# Altium integrated library Linear Technology PMIC-Switching Reg LTC1174-LTC3901.IntLib: 2647 symbols (part 82 of 310)
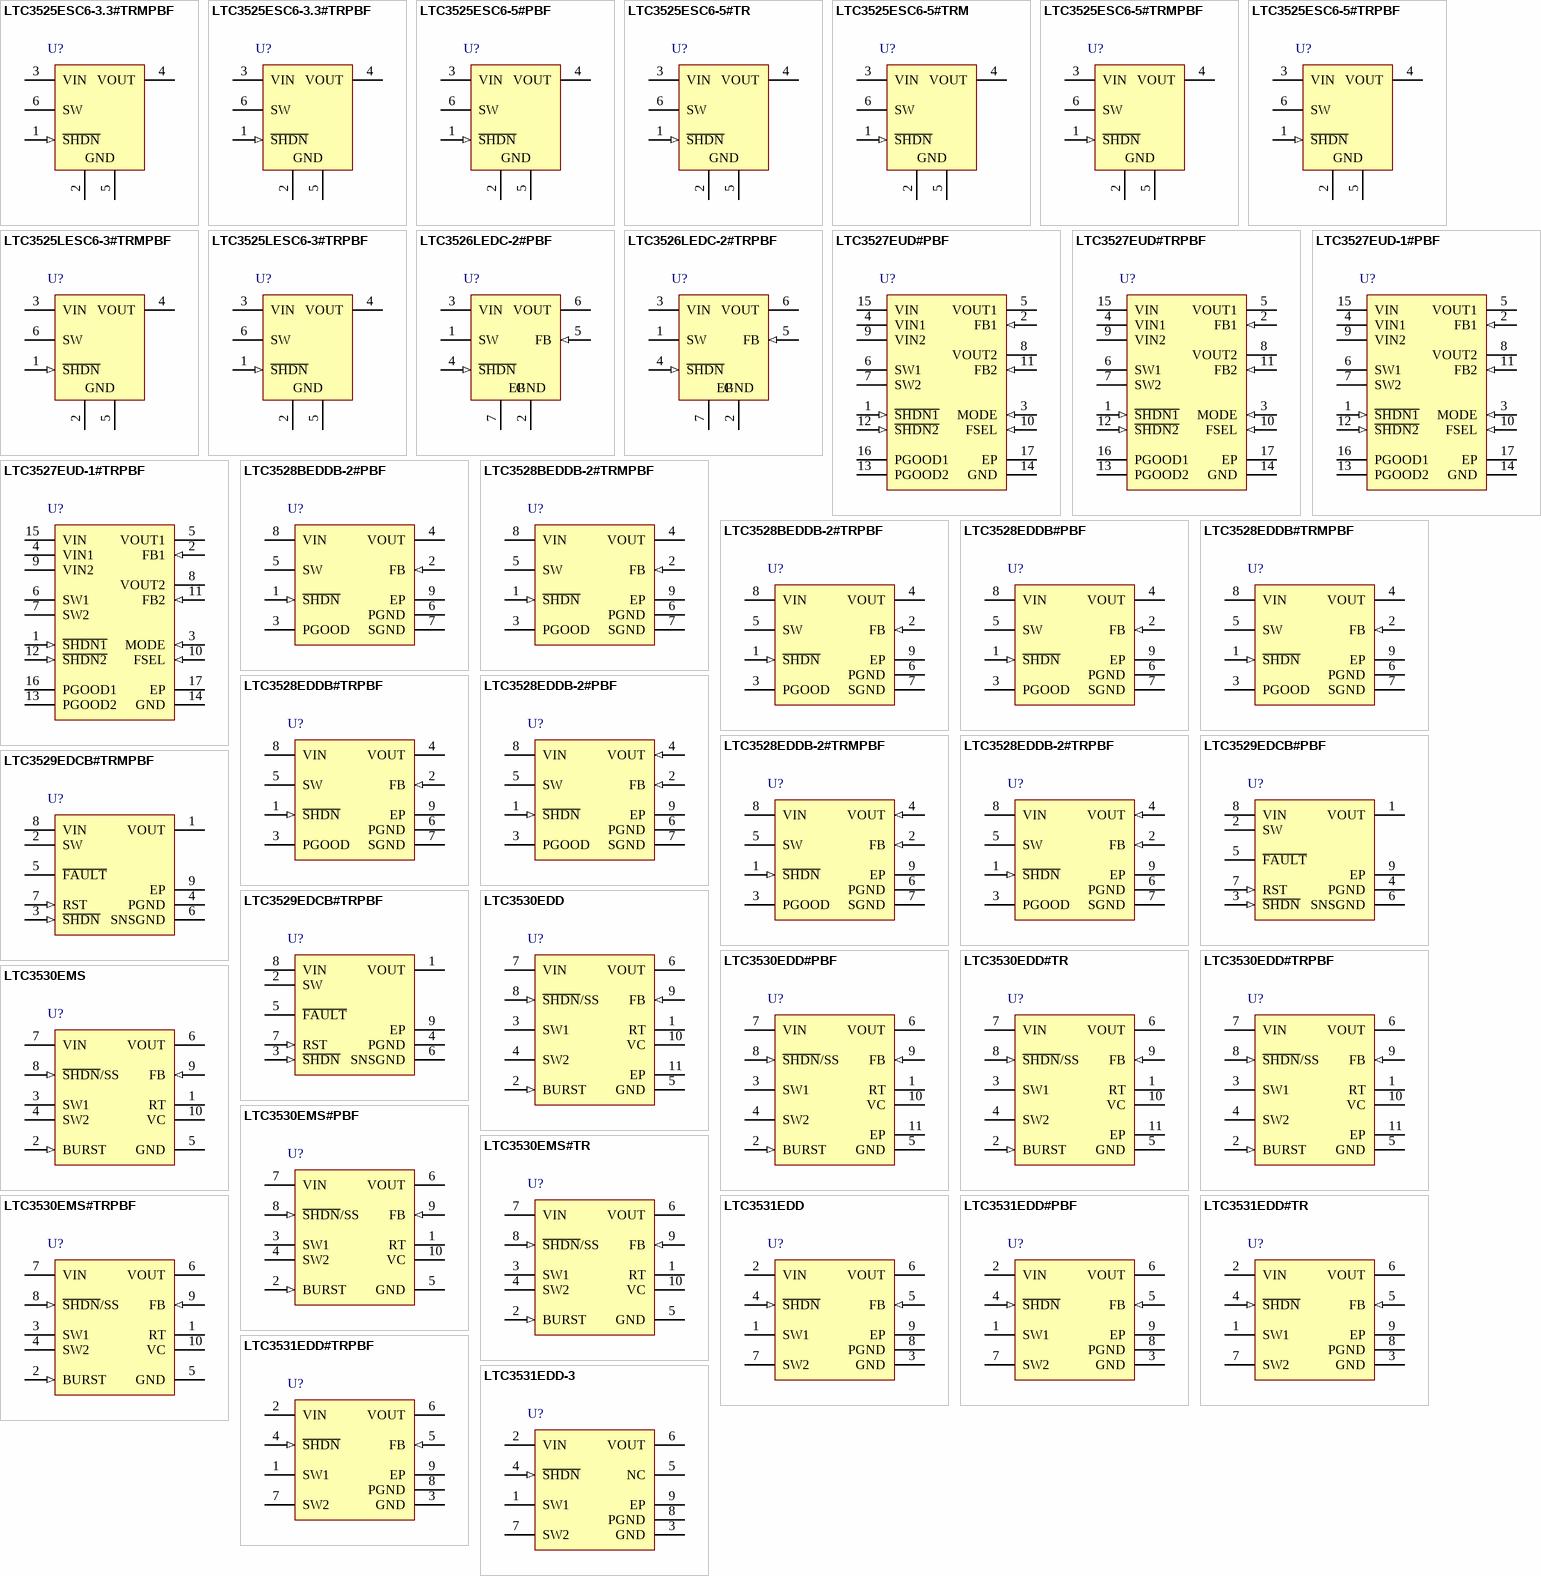
[diagram p162: symbols LTC3525ESC6-3.3#TRMPBF to LTC3531EDD-3]

## LTC3526LEDC-2#PBF
designator U?
550 mA 2 MHz Synchronous Step-Up DC/DC Converter, 6-pin SON (DC6-6), -40 to 85 degC, Pb-Free; Manufacturer: Linear Technology; PartNumber: LTC3526LEDC-2#PBF; Number of Outputs: 1; PackageReference: DC6-6; PackageDescription: 6-Pin Plastic DFN, Body 2 x 2 mm, Pitch 0.5 mm; RoHS: TRUE; Code_JEDEC: MO-229
footprint LT-DC6-6_V (SON, 6-Leads, Body 2x2mm, Pitch 0.5mm, Thermal Pad 1.42x0.61mm)
pins: 1 SW "Switch Pin. Connect inductor between SW and VIN. Keep PCB trace lengths as short and wide as possible to reduce EMI. If the inductor current falls to zero or S\H\D\N\ is low, an internal anti-ringing switch is connected from (See Datasheet)", 2 GND (power) "Signal and Power Ground. Provide a short direct PCB path between GND and the (-) side of the input and output capacitors. The Exposed Pad must be soldered to the PCB ground plane. It serves as an additional ground connection (See Datasheet)", 3 VIN (power) "Input Supply Pin. Connect a minimum of 1uF ceramic decoupling capacitor from this pin to ground using short direct PCB traces.", 4 ~{SHDN} (in) "Logic Controlled Shutdown Input. There is an internal 4Mohm pull-down on this pin.", 5 FB (in) "Feedback Input to the gm Error Amplifier. Connect resistor divider tap to this pin. The top of the divider connects to the output capacitor, the bottom of the divider connects to GND. Referring to the Block Diagram, the (See Datasheet)", 6 VOUT (power) "Output voltage sense and drain of the internal synchronous rectifier. PCB trace from VOUT to the output filter capacitor (4.7uF minimum) should be as short and", 7 EP (power) "Signal and Power Ground. Provide a short direct PCB path between GND and the (-) side of the input and output capacitors. The Exposed Pad must be soldered to the PCB ground plane. It serves as an additional ground connection (See Datasheet)"

## LTC3526LEDC-2#TRPBF
designator U?
550 mA 2 MHz Synchronous Step-Up DC/DC Converter, 6-pin SON (DC6-6), -40 to 85 degC, Pb-Free, Tape and Reel; Manufacturer: Linear Technology; PartNumber: LTC3526LEDC-2#TRPBF; Number of Outputs: 1; PackageReference: DC6-6; PackageDescription: 6-Pin Plastic DFN, Body 2 x 2 mm, Pitch 0.5 mm; RoHS: TRUE; Code_JEDEC: MO-229
footprint LT-DC6-6_V (SON, 6-Leads, Body 2x2mm, Pitch 0.5mm, Thermal Pad 1.42x0.61mm)
pins: 1 SW "Switch Pin. Connect inductor between SW and VIN. Keep PCB trace lengths as short and wide as possible to reduce EMI. If the inductor current falls to zero or S\H\D\N\ is low, an internal anti-ringing switch is connected from (See Datasheet)", 2 GND (power) "Signal and Power Ground. Provide a short direct PCB path between GND and the (-) side of the input and output capacitors. The Exposed Pad must be soldered to the PCB ground plane. It serves as an additional ground connection (See Datasheet)", 3 VIN (power) "Input Supply Pin. Connect a minimum of 1uF ceramic decoupling capacitor from this pin to ground using short direct PCB traces.", 4 ~{SHDN} (in) "Logic Controlled Shutdown Input. There is an internal 4Mohm pull-down on this pin.", 5 FB (in) "Feedback Input to the gm Error Amplifier. Connect resistor divider tap to this pin. The top of the divider connects to the output capacitor, the bottom of the divider connects to GND. Referring to the Block Diagram, the (See Datasheet)", 6 VOUT (power) "Output voltage sense and drain of the internal synchronous rectifier. PCB trace from VOUT to the output filter capacitor (4.7uF minimum) should be as short and", 7 EP (power) "Signal and Power Ground. Provide a short direct PCB path between GND and the (-) side of the input and output capacitors. The Exposed Pad must be soldered to the PCB ground plane. It serves as an additional ground connection (See Datasheet)"

## LTC3527EUD#PBF
designator U?
Dual 800 mA / 400 mA, 1.2 MHz / 2.2 MHz Synchronous Step-Up DC/DC Converter, 16-pin QFN (UD-16), -40 to 85 degC, Pb-Free; Manufacturer: Linear Technology; PartNumber: LTC3527EUD#PBF; Number of Outputs: 2; PackageReference: UD-16; PackageDescription: 16-Pin Plastic QFN, Body 3 x 3 mm, Pitch 0.5 mm; Supplier 1: Digi-Key; Supplier Part Number 1: LTC3527EUD#PBF-ND; RoHS: TRUE; Code_JEDEC: MO-220
footprint LT-UD-16_N (QFN, 16-Leads, Body 3x3mm, Pitch 0.5mm, Thermal Pad 1.45x1.45mm, IPC Medium Density)
footprint LT-UD-16_L (QFN, 16-Leads, Body 3x3mm, Pitch 0.5mm, Thermal Pad 1.45x1.45mm, IPC High Density)
footprint LT-UD-16_M (QFN, 16-Leads, Body 3x3mm, Pitch 0.5mm, Thermal Pad 1.45x1.45mm, IPC Low Density)
pins: 1 ~{SHDN1} (in) "Boost Converter 1 Logic-Controlled Shutdown Input. There is an internal 4Mohm pull-down on this pin.  S\H\D\N\1\ = High: Normal free running operation, 1.2MHz/ 2.2MHz typical operating frequency.  S\H\D\N\1\ = Low: Shutdown, (See Datasheet)", 2 FB1 (in) "Boost Converter 1 Feedback Input to the gm Error Amplifier. Connect resistor divider tap to this pin.", 3 MODE (in) "Logic-Controlled Mode Input for Both Boost Converters. MODE = High: Fixed frequency operation. MODE = Low: Automatic Burst Mode operation.MODE pin must be 1V or greater to ensure fixed frequency over all operating conditions.", 4 VIN1 (power) "Battery Input Voltage. See Operation section for more information.", 5 VOUT1 (power) "Boost Converter 1 Output Voltage Sense Input and Drain of the Internal Synchronous Rectifier MOSFET. Driver bias is derived from VOUT1. PCB trace length from VOUT1 to the output filter capacitor(s) should be as short and (See Datasheet)", 6 SW1 "Boost Converter 1 Switch Pin. Connect the inductor between SW1 and VIN1. Keep these PCB trace lengths as short and wide as possible to reduce EMI and voltage overshoot. If the inductor current falls to zero or S\H\D\N\1\ is (See Datasheet)", 7 SW2 "Boost Converter 2 Switch Pin. Connect the inductor between SW2 and VIN2. Keep these PCB trace lengths as short and wide as possible to reduce EMI and voltage overshoot. If the inductor current falls to zero or S\H\D\N\2\ is (See Datasheet)", 8 VOUT2 (power) "Boost Converter 2 Output Voltage Sense Input and Drain of the Internal Synchronous Rectifier MOSFET. Driver bias is derived from VOUT2. PCB trace length from VOUT2 to the output filter capacitor(s) should be as short and (See Datasheet)", 9 VIN2 (power) "Battery Input Voltage. See Operation section for more information.", 10 FSEL (in) "Logic-Controlled Frequency Select Input. FSEL = High: 2.2MHz operation. FSEL = Low: 1.2MHz operation", 11 FB2 (in) "Boost Converter 2 Feedback Input to the gm Error Amplifier. Connect resistor divider tap to this pin.", 12 ~{SHDN2} (in) "Boost Converter 2 Logic-Controlled Shutdown Input. There is an internal 4Mohm pull-down on this pin. S\H\D\N\2\ = High: Normal free-running operation, 1.2MHz/2.2MHz typical operating frequency. S\H\D\N\2\ = Low: Shutdown, (See Datasheet)", 13 PGOOD2 (oc) "Boost Converter 2 Power Good Comparator Output. This open-drain output is low when VFB is 9% below its regulation voltage.", 14 GND (power) "Signal Ground. This pin is used as a ground reference for the internal circuitry of the LTC3527/LTC3527-1.", 15 VIN (power) "Battery Input Voltage. See Operation section for more information.", 16 PGOOD1 (oc) "Boost Converter 1 Power Good Comparator Output. This open-drain output is low when VFB is 9% below its regulation voltage.", 17 EP (power) "Backplane. The exposed pad is PGND and must be soldered to the PCB ground plane. It serves as the power ground connection for VOUT1 and VOUT2, and as a means of conducting heat away from the package."

## LTC3527EUD#TRPBF
designator U?
Dual 800 mA / 400 mA, 1.2 MHz / 2.2 MHz Synchronous Step-Up DC/DC Converter, 16-pin QFN (UD-16), -40 to 85 degC, Pb-Free, Tape and Reel; Manufacturer: Linear Technology; PartNumber: LTC3527EUD#TRPBF; Number of Outputs: 2; PackageReference: UD-16; PackageDescription: 16-Pin Plastic QFN, Body 3 x 3 mm, Pitch 0.5 mm; Supplier 1: Digi-Key; Supplier Part Number 1: LTC3527EUD#TRPBF-ND; RoHS: TRUE; Code_JEDEC: MO-220
footprint LT-UD-16_N (QFN, 16-Leads, Body 3x3mm, Pitch 0.5mm, Thermal Pad 1.45x1.45mm, IPC Medium Density)
footprint LT-UD-16_L (QFN, 16-Leads, Body 3x3mm, Pitch 0.5mm, Thermal Pad 1.45x1.45mm, IPC High Density)
footprint LT-UD-16_M (QFN, 16-Leads, Body 3x3mm, Pitch 0.5mm, Thermal Pad 1.45x1.45mm, IPC Low Density)
pins: 1 ~{SHDN1} (in) "Boost Converter 1 Logic-Controlled Shutdown Input. There is an internal 4Mohm pull-down on this pin.  S\H\D\N\1\ = High: Normal free running operation, 1.2MHz/ 2.2MHz typical operating frequency.  S\H\D\N\1\ = Low: Shutdown, (See Datasheet)", 2 FB1 (in) "Boost Converter 1 Feedback Input to the gm Error Amplifier. Connect resistor divider tap to this pin.", 3 MODE (in) "Logic-Controlled Mode Input for Both Boost Converters. MODE = High: Fixed frequency operation. MODE = Low: Automatic Burst Mode operation.MODE pin must be 1V or greater to ensure fixed frequency over all operating conditions.", 4 VIN1 (power) "Battery Input Voltage. See Operation section for more information.", 5 VOUT1 (power) "Boost Converter 1 Output Voltage Sense Input and Drain of the Internal Synchronous Rectifier MOSFET. Driver bias is derived from VOUT1. PCB trace length from VOUT1 to the output filter capacitor(s) should be as short and (See Datasheet)", 6 SW1 "Boost Converter 1 Switch Pin. Connect the inductor between SW1 and VIN1. Keep these PCB trace lengths as short and wide as possible to reduce EMI and voltage overshoot. If the inductor current falls to zero or S\H\D\N\1\ is (See Datasheet)", 7 SW2 "Boost Converter 2 Switch Pin. Connect the inductor between SW2 and VIN2. Keep these PCB trace lengths as short and wide as possible to reduce EMI and voltage overshoot. If the inductor current falls to zero or S\H\D\N\2\ is (See Datasheet)", 8 VOUT2 (power) "Boost Converter 2 Output Voltage Sense Input and Drain of the Internal Synchronous Rectifier MOSFET. Driver bias is derived from VOUT2. PCB trace length from VOUT2 to the output filter capacitor(s) should be as short and (See Datasheet)", 9 VIN2 (power) "Battery Input Voltage. See Operation section for more information.", 10 FSEL (in) "Logic-Controlled Frequency Select Input. FSEL = High: 2.2MHz operation. FSEL = Low: 1.2MHz operation", 11 FB2 (in) "Boost Converter 2 Feedback Input to the gm Error Amplifier. Connect resistor divider tap to this pin.", 12 ~{SHDN2} (in) "Boost Converter 2 Logic-Controlled Shutdown Input. There is an internal 4Mohm pull-down on this pin. S\H\D\N\2\ = High: Normal free-running operation, 1.2MHz/2.2MHz typical operating frequency. S\H\D\N\2\ = Low: Shutdown, (See Datasheet)", 13 PGOOD2 (oc) "Boost Converter 2 Power Good Comparator Output. This open-drain output is low when VFB is 9% below its regulation voltage.", 14 GND (power) "Signal Ground. This pin is used as a ground reference for the internal circuitry of the LTC3527/LTC3527-1.", 15 VIN (power) "Battery Input Voltage. See Operation section for more information.", 16 PGOOD1 (oc) "Boost Converter 1 Power Good Comparator Output. This open-drain output is low when VFB is 9% below its regulation voltage.", 17 EP (power) "Backplane. The exposed pad is PGND and must be soldered to the PCB ground plane. It serves as the power ground connection for VOUT1 and VOUT2, and as a means of conducting heat away from the package."

## LTC3527EUD-1#PBF
designator U?
Dual 800 mA / 400 mA, 1.2 MHz / 2.2 MHz Synchronous Step-Up DC/DC Converter Discharge, 1.6 to 5.25 V Vout, 16-pin QFN (UD-16), -40 to 85 degC, Pb-Free; Manufacturer: Linear Technology; PartNumber: LTC3527EUD-1#PBF; Number of Outputs: 2; PackageReference: UD-16; PackageDescription: 16-Pin Plastic QFN, Body 3 x 3 mm, Pitch 0.5 mm; Supplier 1: Digi-Key; Supplier Part Number 1: LTC3527EUD-1#PBF-ND; RoHS: TRUE; Code_JEDEC: MO-220
footprint LT-UD-16_N (QFN, 16-Leads, Body 3x3mm, Pitch 0.5mm, Thermal Pad 1.45x1.45mm, IPC Medium Density)
footprint LT-UD-16_L (QFN, 16-Leads, Body 3x3mm, Pitch 0.5mm, Thermal Pad 1.45x1.45mm, IPC High Density)
footprint LT-UD-16_M (QFN, 16-Leads, Body 3x3mm, Pitch 0.5mm, Thermal Pad 1.45x1.45mm, IPC Low Density)
pins: 1 ~{SHDN1} (in) "Boost Converter 1 Logic-Controlled Shutdown Input. There is an internal 4Mohm pull-down on this pin.  S\H\D\N\1\ = High: Normal free running operation, 1.2MHz/ 2.2MHz typical operating frequency.  S\H\D\N\1\ = Low: Shutdown, (See Datasheet)", 2 FB1 (in) "Boost Converter 1 Feedback Input to the gm Error Amplifier. Connect resistor divider tap to this pin.", 3 MODE (in) "Logic-Controlled Mode Input for Both Boost Converters. MODE = High: Fixed frequency operation. MODE = Low: Automatic Burst Mode operation.MODE pin must be 1V or greater to ensure fixed frequency over all operating conditions.", 4 VIN1 (power) "Battery Input Voltage. See Operation section for more information.", 5 VOUT1 (power) "Boost Converter 1 Output Voltage Sense Input and Drain of the Internal Synchronous Rectifier MOSFET. Driver bias is derived from VOUT1. PCB trace length from VOUT1 to the output filter capacitor(s) should be as short and (See Datasheet)", 6 SW1 "Boost Converter 1 Switch Pin. Connect the inductor between SW1 and VIN1. Keep these PCB trace lengths as short and wide as possible to reduce EMI and voltage overshoot. If the inductor current falls to zero or S\H\D\N\1\ is (See Datasheet)", 7 SW2 "Boost Converter 2 Switch Pin. Connect the inductor between SW2 and VIN2. Keep these PCB trace lengths as short and wide as possible to reduce EMI and voltage overshoot. If the inductor current falls to zero or S\H\D\N\2\ is (See Datasheet)", 8 VOUT2 (power) "Boost Converter 2 Output Voltage Sense Input and Drain of the Internal Synchronous Rectifier MOSFET. Driver bias is derived from VOUT2. PCB trace length from VOUT2 to the output filter capacitor(s) should be as short and (See Datasheet)", 9 VIN2 (power) "Battery Input Voltage. See Operation section for more information.", 10 FSEL (in) "Logic-Controlled Frequency Select Input. FSEL = High: 2.2MHz operation. FSEL = Low: 1.2MHz operation", 11 FB2 (in) "Boost Converter 2 Feedback Input to the gm Error Amplifier. Connect resistor divider tap to this pin.", 12 ~{SHDN2} (in) "Boost Converter 2 Logic-Controlled Shutdown Input. There is an internal 4Mohm pull-down on this pin. S\H\D\N\2\ = High: Normal free-running operation, 1.2MHz/2.2MHz typical operating frequency. S\H\D\N\2\ = Low: Shutdown, (See Datasheet)", 13 PGOOD2 (oc) "Boost Converter 2 Power Good Comparator Output. This open-drain output is low when VFB is 9% below its regulation voltage.", 14 GND (power) "Signal Ground. This pin is used as a ground reference for the internal circuitry of the LTC3527/LTC3527-1.", 15 VIN (power) "Battery Input Voltage. See Operation section for more information.", 16 PGOOD1 (oc) "Boost Converter 1 Power Good Comparator Output. This open-drain output is low when VFB is 9% below its regulation voltage.", 17 EP (power) "Backplane. The exposed pad is PGND and must be soldered to the PCB ground plane. It serves as the power ground connection for VOUT1 and VOUT2, and as a means of conducting heat away from the package."

## LTC3527EUD-1#TRPBF
designator U?
Dual 800 mA / 400 mA, 1.2 MHz / 2.2 MHz Synchronous Step-Up DC/DC Converter Discharge, 1.6 to 5.25 V Vout, 16-pin QFN (UD-16), -40 to 85 degC, Pb-Free, Tape and Reel; Manufacturer: Linear Technology; PartNumber: LTC3527EUD-1#TRPBF; Number of Outputs: 2; PackageReference: UD-16; PackageDescription: 16-Pin Plastic QFN, Body 3 x 3 mm, Pitch 0.5 mm; Supplier 1: Digi-Key; Supplier Part Number 1: LTC3527EUD-1#TRPBF-ND; RoHS: TRUE; Code_JEDEC: MO-220
footprint LT-UD-16_N (QFN, 16-Leads, Body 3x3mm, Pitch 0.5mm, Thermal Pad 1.45x1.45mm, IPC Medium Density)
footprint LT-UD-16_L (QFN, 16-Leads, Body 3x3mm, Pitch 0.5mm, Thermal Pad 1.45x1.45mm, IPC High Density)
footprint LT-UD-16_M (QFN, 16-Leads, Body 3x3mm, Pitch 0.5mm, Thermal Pad 1.45x1.45mm, IPC Low Density)
pins: 1 ~{SHDN1} (in) "Boost Converter 1 Logic-Controlled Shutdown Input. There is an internal 4Mohm pull-down on this pin.  S\H\D\N\1\ = High: Normal free running operation, 1.2MHz/ 2.2MHz typical operating frequency.  S\H\D\N\1\ = Low: Shutdown, (See Datasheet)", 2 FB1 (in) "Boost Converter 1 Feedback Input to the gm Error Amplifier. Connect resistor divider tap to this pin.", 3 MODE (in) "Logic-Controlled Mode Input for Both Boost Converters. MODE = High: Fixed frequency operation. MODE = Low: Automatic Burst Mode operation.MODE pin must be 1V or greater to ensure fixed frequency over all operating conditions.", 4 VIN1 (power) "Battery Input Voltage. See Operation section for more information.", 5 VOUT1 (power) "Boost Converter 1 Output Voltage Sense Input and Drain of the Internal Synchronous Rectifier MOSFET. Driver bias is derived from VOUT1. PCB trace length from VOUT1 to the output filter capacitor(s) should be as short and (See Datasheet)", 6 SW1 "Boost Converter 1 Switch Pin. Connect the inductor between SW1 and VIN1. Keep these PCB trace lengths as short and wide as possible to reduce EMI and voltage overshoot. If the inductor current falls to zero or S\H\D\N\1\ is (See Datasheet)", 7 SW2 "Boost Converter 2 Switch Pin. Connect the inductor between SW2 and VIN2. Keep these PCB trace lengths as short and wide as possible to reduce EMI and voltage overshoot. If the inductor current falls to zero or S\H\D\N\2\ is (See Datasheet)", 8 VOUT2 (power) "Boost Converter 2 Output Voltage Sense Input and Drain of the Internal Synchronous Rectifier MOSFET. Driver bias is derived from VOUT2. PCB trace length from VOUT2 to the output filter capacitor(s) should be as short and (See Datasheet)", 9 VIN2 (power) "Battery Input Voltage. See Operation section for more information.", 10 FSEL (in) "Logic-Controlled Frequency Select Input. FSEL = High: 2.2MHz operation. FSEL = Low: 1.2MHz operation", 11 FB2 (in) "Boost Converter 2 Feedback Input to the gm Error Amplifier. Connect resistor divider tap to this pin.", 12 ~{SHDN2} (in) "Boost Converter 2 Logic-Controlled Shutdown Input. There is an internal 4Mohm pull-down on this pin. S\H\D\N\2\ = High: Normal free-running operation, 1.2MHz/2.2MHz typical operating frequency. S\H\D\N\2\ = Low: Shutdown, (See Datasheet)", 13 PGOOD2 (oc) "Boost Converter 2 Power Good Comparator Output. This open-drain output is low when VFB is 9% below its regulation voltage.", 14 GND (power) "Signal Ground. This pin is used as a ground reference for the internal circuitry of the LTC3527/LTC3527-1.", 15 VIN (power) "Battery Input Voltage. See Operation section for more information.", 16 PGOOD1 (oc) "Boost Converter 1 Power Good Comparator Output. This open-drain output is low when VFB is 9% below its regulation voltage.", 17 EP (power) "Backplane. The exposed pad is PGND and must be soldered to the PCB ground plane. It serves as the power ground connection for VOUT1 and VOUT2, and as a means of conducting heat away from the package."

## LTC3528BEDDB-2#PBF
designator U?
1 A, 2 MHz Synchronous Step-Up DC/DC Converter, 8-pin SON (DDB-8), -40 to 125 degC, Pb-Free; Manufacturer: Linear Technology; PartNumber: LTC3528BEDDB-2#PBF; Number of Outputs: 1; PackageReference: DDB-8; PackageDescription: 8-Pin Plastic DFN, Body 3 x 2 mm, Pitch 0.5 mm; Supplier 1: Farnell; Supplier Part Number 1: 2308600; RoHS: TRUE; Code_JEDEC: MO-229
footprint LT-DDB-8_V (SON, 8-Leads, Body 3x2mm, Pitch 0.5mm, Thermal Pad 2.2x0.61mm)
pins: 1 ~{SHDN} (in) "Logic Controlled Shutdown Input. There is an internal 4Mohm pull-down resistor on this pin.", 2 FB (in) "Feedback Input. Connect resistor divider tap to this pin.", 3 PGOOD (oc) "Power Good Comparator Output. This open-drain output is low when VFB < 10% from its regulation voltage.", 4 VOUT (power) "Output Voltage Sense and Drain Connection of the Internal Synchronous Rectifier. PCB trace length from VOUT to the output filter capacitor (4.7uF minimum) should be as short and wide as possible.", 5 SW "Switch Pin. Connect inductor between SW and VIN. Keep PCB trace lengths as short and wide as possible to reduce EMI. If the inductor current falls to zero, or S\H\D\N\ is low, an internal anti-ringing switch is connected (See Datasheet)", 6 PGND (power) "Power Ground. Provide a short direct PCB path between PGND and the (-) side of the input and output capacitors.", 7 SGND (power) "Signal Ground. Provide a short direct PCB path between SGND and the (-) side of the input and output capacitors.", 8 VIN (power) "Battery Input Voltage. Connect a minimum of 1uF ceramic decoupling capacitor from this pin to ground.", 9 EP (power) "The exposed pad must be soldered to the PCB ground plane. It serves as another ground connection and as a means of conducting heat away from the die."

## LTC3528BEDDB-2#TRMPBF
designator U?
1 A, 2 MHz Synchronous Step-Up DC/DC Converter, 8-pin SON (DDB-8), -40 to 125 degC, Pb-Free, Mini Tape and Reel; Manufacturer: Linear Technology; PartNumber: LTC3528BEDDB-2#TRMPBF; Number of Outputs: 1; PackageReference: DDB-8; PackageDescription: 8-Pin Plastic DFN, Body 3 x 2 mm, Pitch 0.5 mm; Supplier 1: Digi-Key; Supplier Part Number 1: LTC3528BEDDB-2#TRMPBFTR-ND; RoHS: TRUE; Code_JEDEC: MO-229
footprint LT-DDB-8_V (SON, 8-Leads, Body 3x2mm, Pitch 0.5mm, Thermal Pad 2.2x0.61mm)
pins: 1 ~{SHDN} (in) "Logic Controlled Shutdown Input. There is an internal 4Mohm pull-down resistor on this pin.", 2 FB (in) "Feedback Input. Connect resistor divider tap to this pin.", 3 PGOOD (oc) "Power Good Comparator Output. This open-drain output is low when VFB < 10% from its regulation voltage.", 4 VOUT (power) "Output Voltage Sense and Drain Connection of the Internal Synchronous Rectifier. PCB trace length from VOUT to the output filter capacitor (4.7uF minimum) should be as short and wide as possible.", 5 SW "Switch Pin. Connect inductor between SW and VIN. Keep PCB trace lengths as short and wide as possible to reduce EMI. If the inductor current falls to zero, or S\H\D\N\ is low, an internal anti-ringing switch is connected (See Datasheet)", 6 PGND (power) "Power Ground. Provide a short direct PCB path between PGND and the (-) side of the input and output capacitors.", 7 SGND (power) "Signal Ground. Provide a short direct PCB path between SGND and the (-) side of the input and output capacitors.", 8 VIN (power) "Battery Input Voltage. Connect a minimum of 1uF ceramic decoupling capacitor from this pin to ground.", 9 EP (power) "The exposed pad must be soldered to the PCB ground plane. It serves as another ground connection and as a means of conducting heat away from the die."

## LTC3528BEDDB-2#TRPBF
designator U?
1 A, 2 MHz Synchronous Step-Up DC/DC Converter, 8-pin SON (DDB-8), -40 to 125 degC, Pb-Free, Tape and Reel; Manufacturer: Linear Technology; PartNumber: LTC3528BEDDB-2#TRPBF; Number of Outputs: 1; PackageReference: DDB-8; PackageDescription: 8-Pin Plastic DFN, Body 3 x 2 mm, Pitch 0.5 mm; Supplier 1: Digi-Key; Supplier Part Number 1: LTC3528BEDDB-2#TRPBF-ND; RoHS: TRUE; Code_JEDEC: MO-229
footprint LT-DDB-8_V (SON, 8-Leads, Body 3x2mm, Pitch 0.5mm, Thermal Pad 2.2x0.61mm)
pins: 1 ~{SHDN} (in) "Logic Controlled Shutdown Input. There is an internal 4Mohm pull-down resistor on this pin.", 2 FB (in) "Feedback Input. Connect resistor divider tap to this pin.", 3 PGOOD (oc) "Power Good Comparator Output. This open-drain output is low when VFB < 10% from its regulation voltage.", 4 VOUT (power) "Output Voltage Sense and Drain Connection of the Internal Synchronous Rectifier. PCB trace length from VOUT to the output filter capacitor (4.7uF minimum) should be as short and wide as possible.", 5 SW "Switch Pin. Connect inductor between SW and VIN. Keep PCB trace lengths as short and wide as possible to reduce EMI. If the inductor current falls to zero, or S\H\D\N\ is low, an internal anti-ringing switch is connected (See Datasheet)", 6 PGND (power) "Power Ground. Provide a short direct PCB path between PGND and the (-) side of the input and output capacitors.", 7 SGND (power) "Signal Ground. Provide a short direct PCB path between SGND and the (-) side of the input and output capacitors.", 8 VIN (power) "Battery Input Voltage. Connect a minimum of 1uF ceramic decoupling capacitor from this pin to ground.", 9 EP (power) "The exposed pad must be soldered to the PCB ground plane. It serves as another ground connection and as a means of conducting heat away from the die."

## LTC3528EDDB#PBF
designator U?
1 A, 1 MHz Synchronous Step-Up DC/DC Converter, 8-pin SON (DDB-8), -40 to 125 degC, Pb-Free; Manufacturer: Linear Technology; PartNumber: LTC3528EDDB#PBF; Number of Outputs: 1; PackageReference: DDB-8; PackageDescription: 8-Pin Plastic DFN, Body 3 x 2 mm, Pitch 0.5 mm; Supplier 1: Newark; Supplier Part Number 1: 78T3199; RoHS: TRUE; Code_JEDEC: MO-229
footprint LT-DDB-8_V (SON, 8-Leads, Body 3x2mm, Pitch 0.5mm, Thermal Pad 2.2x0.61mm)
pins: 1 ~{SHDN} (in) "Logic Controlled Shutdown Input. There is an internal 4Mohm pull-down resistor on this pin.", 2 FB (in) "Feedback Input. Connect resistor divider tap to this pin.", 3 PGOOD (oc) "Power Good Comparator Output. This open-drain output is low when VFB < 10% from its regulation voltage.", 4 VOUT (power) "Output Voltage Sense and Drain Connection of the Internal Synchronous Rectifier. PCB trace length from VOUT to the output filter capacitor (4.7uF minimum) should be as short and wide as possible.", 5 SW "Switch Pin. Connect inductor between SW and VIN. Keep PCB trace lengths as short and wide as possible to reduce EMI. If the inductor current falls to zero, or S\H\D\N\ is low, an internal anti-ringing switch is connected (See Datasheet)", 6 PGND (power) "Power Ground. Provide a short direct PCB path between PGND and the (-) side of the input and output capacitors.", 7 SGND (power) "Signal Ground. Provide a short direct PCB path between SGND and the (-) side of the input and output capacitors.", 8 VIN (power) "Battery Input Voltage. Connect a minimum of 1uF ceramic decoupling capacitor from this pin to ground.", 9 EP (power) "The exposed pad must be soldered to the PCB ground plane. It serves as another ground connection and as a means of conducting heat away from the die."

## LTC3528EDDB#TRMPBF
designator U?
1 A, 1 MHz Synchronous Step-Up DC/DC Converter, 8-pin SON (DDB-8), -40 to 125 degC, Pb-Free, Mini Tape and Reel; Manufacturer: Linear Technology; PartNumber: LTC3528EDDB#TRMPBF; Number of Outputs: 1; PackageReference: DDB-8; PackageDescription: 8-Pin Plastic DFN, Body 3 x 2 mm, Pitch 0.5 mm; Supplier 1: Digi-Key; Supplier Part Number 1: LTC3528EDDB#TRMPBFTR-ND; RoHS: TRUE; Code_JEDEC: MO-229
footprint LT-DDB-8_V (SON, 8-Leads, Body 3x2mm, Pitch 0.5mm, Thermal Pad 2.2x0.61mm)
pins: 1 ~{SHDN} (in) "Logic Controlled Shutdown Input. There is an internal 4Mohm pull-down resistor on this pin.", 2 FB (in) "Feedback Input. Connect resistor divider tap to this pin.", 3 PGOOD (oc) "Power Good Comparator Output. This open-drain output is low when VFB < 10% from its regulation voltage.", 4 VOUT (power) "Output Voltage Sense and Drain Connection of the Internal Synchronous Rectifier. PCB trace length from VOUT to the output filter capacitor (4.7uF minimum) should be as short and wide as possible.", 5 SW "Switch Pin. Connect inductor between SW and VIN. Keep PCB trace lengths as short and wide as possible to reduce EMI. If the inductor current falls to zero, or S\H\D\N\ is low, an internal anti-ringing switch is connected (See Datasheet)", 6 PGND (power) "Power Ground. Provide a short direct PCB path between PGND and the (-) side of the input and output capacitors.", 7 SGND (power) "Signal Ground. Provide a short direct PCB path between SGND and the (-) side of the input and output capacitors.", 8 VIN (power) "Battery Input Voltage. Connect a minimum of 1uF ceramic decoupling capacitor from this pin to ground.", 9 EP (power) "The exposed pad must be soldered to the PCB ground plane. It serves as another ground connection and as a means of conducting heat away from the die."

## LTC3528EDDB#TRPBF
designator U?
1 A, 1 MHz Synchronous Step-Up DC/DC Converter, 8-pin SON (DDB-8), -40 to 125 degC, Pb-Free, Tape and Reel; Manufacturer: Linear Technology; PartNumber: LTC3528EDDB#TRPBF; Number of Outputs: 1; PackageReference: DDB-8; PackageDescription: 8-Pin Plastic DFN, Body 3 x 2 mm, Pitch 0.5 mm; Supplier 1: Digi-Key; Supplier Part Number 1: LTC3528EDDB#TRPBF-ND; RoHS: TRUE; Code_JEDEC: MO-229
footprint LT-DDB-8_V (SON, 8-Leads, Body 3x2mm, Pitch 0.5mm, Thermal Pad 2.2x0.61mm)
pins: 1 ~{SHDN} (in) "Logic Controlled Shutdown Input. There is an internal 4Mohm pull-down resistor on this pin.", 2 FB (in) "Feedback Input. Connect resistor divider tap to this pin.", 3 PGOOD (oc) "Power Good Comparator Output. This open-drain output is low when VFB < 10% from its regulation voltage.", 4 VOUT (power) "Output Voltage Sense and Drain Connection of the Internal Synchronous Rectifier. PCB trace length from VOUT to the output filter capacitor (4.7uF minimum) should be as short and wide as possible.", 5 SW "Switch Pin. Connect inductor between SW and VIN. Keep PCB trace lengths as short and wide as possible to reduce EMI. If the inductor current falls to zero, or S\H\D\N\ is low, an internal anti-ringing switch is connected (See Datasheet)", 6 PGND (power) "Power Ground. Provide a short direct PCB path between PGND and the (-) side of the input and output capacitors.", 7 SGND (power) "Signal Ground. Provide a short direct PCB path between SGND and the (-) side of the input and output capacitors.", 8 VIN (power) "Battery Input Voltage. Connect a minimum of 1uF ceramic decoupling capacitor from this pin to ground.", 9 EP (power) "The exposed pad must be soldered to the PCB ground plane. It serves as another ground connection and as a means of conducting heat away from the die."

## LTC3528EDDB-2#PBF
designator U?
1 A, 2 MHz Synchronous Step-Up DC/DC Converter, 8-pin SON (DDB-8), -40 to 125 degC, Pb-Free; Manufacturer: Linear Technology; PartNumber: LTC3528EDDB-2#PBF; Number of Outputs: 1; PackageReference: DDB-8; PackageDescription: 8-Pin Plastic DFN, Body 3 x 2 mm, Pitch 0.5 mm; Supplier 1: Farnell; Supplier Part Number 1: 2102650; RoHS: TRUE; Code_JEDEC: MO-229
footprint LT-DDB-8_V (SON, 8-Leads, Body 3x2mm, Pitch 0.5mm, Thermal Pad 2.2x0.61mm)
pins: 1 ~{SHDN} (in) "Logic Controlled Shutdown Input. There is an internal 4M pull-down resistor on this pin.", 2 FB (in) "Feedback Input. Connect resistor divider tap to this pin.", 3 PGOOD (oc) "Power Good Comparator Output. This open-drain output is low when VFB < 10% from its regulation voltage.", 4 VOUT (in) "Output Voltage Sense and Drain Connection of the Internal Synchronous Rectifier. PCB trace length from VOUT to the output filter capacitor (4.7uF minimum) should be as short and wide as possible.", 5 SW "Switch Pin. Connect inductor between SW and VIN. Keep PCB trace lengths as short and wide as possible to reduce EMI. If the inductor current falls to zero, or S\H\D\N\ is low, an internal anti-ringing switch is connected (See Datasheet)", 6 PGND (power) "Power Ground. Provide a short direct PCB path between PGND and the (-) side of the input and output capacitors.", 7 SGND (power) "Signal Ground. Provide a short direct PCB path between SGND and the (-) side of the input and output capacitors.", 8 VIN (power) "Battery Input Voltage. Connect a minimum of 1uF ceramic decoupling capacitor from this pin to ground.", 9 EP (power) "The exposed pad must be soldered to the PCB ground plane. It serves as another ground connection and as a means of conducting heat away from the die."

## LTC3528EDDB-2#TRMPBF
designator U?
1 A, 2 MHz Synchronous Step-Up DC/DC Converter, 8-pin SON (DDB-8), -40 to 125 degC, Pb-Free, Mini Tape and Reel; Manufacturer: Linear Technology; PartNumber: LTC3528EDDB-2#TRMPBF; Number of Outputs: 1; PackageReference: DDB-8; PackageDescription: 8-Pin Plastic DFN, Body 3 x 2 mm, Pitch 0.5 mm; Supplier 1: Digi-Key; Supplier Part Number 1: LTC3528EDDB-2#TRMPBF-ND; RoHS: TRUE; Code_JEDEC: MO-229
footprint LT-DDB-8_V (SON, 8-Leads, Body 3x2mm, Pitch 0.5mm, Thermal Pad 2.2x0.61mm)
pins: 1 ~{SHDN} (in) "Logic Controlled Shutdown Input. There is an internal 4M pull-down resistor on this pin.", 2 FB (in) "Feedback Input. Connect resistor divider tap to this pin.", 3 PGOOD (oc) "Power Good Comparator Output. This open-drain output is low when VFB < 10% from its regulation voltage.", 4 VOUT (in) "Output Voltage Sense and Drain Connection of the Internal Synchronous Rectifier. PCB trace length from VOUT to the output filter capacitor (4.7uF minimum) should be as short and wide as possible.", 5 SW "Switch Pin. Connect inductor between SW and VIN. Keep PCB trace lengths as short and wide as possible to reduce EMI. If the inductor current falls to zero, or S\H\D\N\ is low, an internal anti-ringing switch is connected (See Datasheet)", 6 PGND (power) "Power Ground. Provide a short direct PCB path between PGND and the (-) side of the input and output capacitors.", 7 SGND (power) "Signal Ground. Provide a short direct PCB path between SGND and the (-) side of the input and output capacitors.", 8 VIN (power) "Battery Input Voltage. Connect a minimum of 1uF ceramic decoupling capacitor from this pin to ground.", 9 EP (power) "The exposed pad must be soldered to the PCB ground plane. It serves as another ground connection and as a means of conducting heat away from the die."

## LTC3528EDDB-2#TRPBF
designator U?
1 A, 2 MHz Synchronous Step-Up DC/DC Converter, 8-pin SON (DDB-8), -40 to 125 degC, Pb-Free, Tape and Reel; Manufacturer: Linear Technology; PartNumber: LTC3528EDDB-2#TRPBF; Number of Outputs: 1; PackageReference: DDB-8; PackageDescription: 8-Pin Plastic DFN, Body 3 x 2 mm, Pitch 0.5 mm; Supplier 1: Digi-Key; Supplier Part Number 1: LTC3528EDDB-2#TRPBF-ND; RoHS: TRUE; Code_JEDEC: MO-229
footprint LT-DDB-8_V (SON, 8-Leads, Body 3x2mm, Pitch 0.5mm, Thermal Pad 2.2x0.61mm)
pins: 1 ~{SHDN} (in) "Logic Controlled Shutdown Input. There is an internal 4M pull-down resistor on this pin.", 2 FB (in) "Feedback Input. Connect resistor divider tap to this pin.", 3 PGOOD (oc) "Power Good Comparator Output. This open-drain output is low when VFB < 10% from its regulation voltage.", 4 VOUT (in) "Output Voltage Sense and Drain Connection of the Internal Synchronous Rectifier. PCB trace length from VOUT to the output filter capacitor (4.7uF minimum) should be as short and wide as possible.", 5 SW "Switch Pin. Connect inductor between SW and VIN. Keep PCB trace lengths as short and wide as possible to reduce EMI. If the inductor current falls to zero, or S\H\D\N\ is low, an internal anti-ringing switch is connected (See Datasheet)", 6 PGND (power) "Power Ground. Provide a short direct PCB path between PGND and the (-) side of the input and output capacitors.", 7 SGND (power) "Signal Ground. Provide a short direct PCB path between SGND and the (-) side of the input and output capacitors.", 8 VIN (power) "Battery Input Voltage. Connect a minimum of 1uF ceramic decoupling capacitor from this pin to ground.", 9 EP (power) "The exposed pad must be soldered to the PCB ground plane. It serves as another ground connection and as a means of conducting heat away from the die."

## LTC3529EDCB#PBF
designator U?
1.5 A, 1.5 MHz Step-Up DC/DC Converter, 8-pin SON (DCB-8), -40 to 85 degC, Pb-Free; Manufacturer: Linear Technology; PartNumber: LTC3529EDCB#PBF; Number of Outputs: 1; PackageReference: DCB-8; PackageDescription: 8-Pin Plastic DFN, Body 2 x 3 mm, Pitch 0.45 mm; Supplier 1: Newark; Supplier Part Number 1: 51P3122; RoHS: TRUE
footprint LT-DCB-8_V (SON, 8-Leads, Body 3x2mm, Pitch 0.45mm, Thermal Pad 1.65x1.35mm)
pins: 1 VOUT (power) "Converter Output, Voltage Sense Input and Drain of the Internal Synchronous Rectifier MOSFET. Driver bias is derived from VOUT. PCB trace length from VOUT to the output filter capacitor(s) should be as short and wide as (See Datasheet)", 2 SW "Switch Node. This node connects to one side of the inductor. Keep PCB traces as short and wide as possible to reduce EMI and voltage overshoot. If the inductor current falls to zero, or S\H\D\N\ is low, an internal 100ohm (See Datasheet)", 3 ~{SHDN} (in) "Active-Low Shutdown Input. Forcing this pin above 1V enables the converter. Forcing this pin below 0.35V disables the converter. Do not float this pin.", 4 PGND (power) "High Current Ground Connection. The PCB trace connecting this pin to ground should be as short and as wide as possible.", 5 ~{FAULT} (oc) "Open-Drain Fault Indicator Output. Pulls low when an overcurrent condition exists for more than 22ms.", 6 SNSGND (power) "This pin must be connected to ground.", 7 RST (in) "Logic Input to Select Automatic Restart or Latchoff Following a Fault Shutdown. RST = High: Auto-reset mode. In this mode, the LTC3529 will automatically attempt to restart 22ms (typically) after a fault shutdown. RST = Low: (See Datasheet)", 8 VIN (power) "Input Supply Pin.", 9 EP (power) "Small Signal Ground. This is the ground reference for the internal circuitry of the LTC3529 and must be connected directly to ground."

## LTC3529EDCB#TRMPBF
designator U?
1.5 A, 1.5 MHz Step-Up DC/DC Converter, 8-pin SON (DCB-8), -40 to 85 degC, Pb-Free, Mini Tape and Reel; Manufacturer: Linear Technology; PartNumber: LTC3529EDCB#TRMPBF; Number of Outputs: 1; PackageReference: DCB-8; PackageDescription: 8-Pin Plastic DFN, Body 2 x 3 mm, Pitch 0.45 mm; Supplier 1: Digi-Key; Supplier Part Number 1: LTC3529EDCB#TRMPBFTR-ND; RoHS: TRUE
footprint LT-DCB-8_V (SON, 8-Leads, Body 3x2mm, Pitch 0.45mm, Thermal Pad 1.65x1.35mm)
pins: 1 VOUT (power) "Converter Output, Voltage Sense Input and Drain of the Internal Synchronous Rectifier MOSFET. Driver bias is derived from VOUT. PCB trace length from VOUT to the output filter capacitor(s) should be as short and wide as (See Datasheet)", 2 SW "Switch Node. This node connects to one side of the inductor. Keep PCB traces as short and wide as possible to reduce EMI and voltage overshoot. If the inductor current falls to zero, or S\H\D\N\ is low, an internal 100ohm (See Datasheet)", 3 ~{SHDN} (in) "Active-Low Shutdown Input. Forcing this pin above 1V enables the converter. Forcing this pin below 0.35V disables the converter. Do not float this pin.", 4 PGND (power) "High Current Ground Connection. The PCB trace connecting this pin to ground should be as short and as wide as possible.", 5 ~{FAULT} (oc) "Open-Drain Fault Indicator Output. Pulls low when an overcurrent condition exists for more than 22ms.", 6 SNSGND (power) "This pin must be connected to ground.", 7 RST (in) "Logic Input to Select Automatic Restart or Latchoff Following a Fault Shutdown. RST = High: Auto-reset mode. In this mode, the LTC3529 will automatically attempt to restart 22ms (typically) after a fault shutdown. RST = Low: (See Datasheet)", 8 VIN (power) "Input Supply Pin.", 9 EP (power) "Small Signal Ground. This is the ground reference for the internal circuitry of the LTC3529 and must be connected directly to ground."

## LTC3529EDCB#TRPBF
designator U?
1.5 A, 1.5 MHz Step-Up DC/DC Converter, 8-pin SON (DCB-8), -40 to 85 degC, Pb-Free, Tape and Reel; Manufacturer: Linear Technology; PartNumber: LTC3529EDCB#TRPBF; Number of Outputs: 1; PackageReference: DCB-8; PackageDescription: 8-Pin Plastic DFN, Body 2 x 3 mm, Pitch 0.45 mm; Supplier 1: Digi-Key; Supplier Part Number 1: LTC3529EDCB#TRPBF-ND; RoHS: TRUE
footprint LT-DCB-8_V (SON, 8-Leads, Body 3x2mm, Pitch 0.45mm, Thermal Pad 1.65x1.35mm)
pins: 1 VOUT (power) "Converter Output, Voltage Sense Input and Drain of the Internal Synchronous Rectifier MOSFET. Driver bias is derived from VOUT. PCB trace length from VOUT to the output filter capacitor(s) should be as short and wide as (See Datasheet)", 2 SW "Switch Node. This node connects to one side of the inductor. Keep PCB traces as short and wide as possible to reduce EMI and voltage overshoot. If the inductor current falls to zero, or S\H\D\N\ is low, an internal 100ohm (See Datasheet)", 3 ~{SHDN} (in) "Active-Low Shutdown Input. Forcing this pin above 1V enables the converter. Forcing this pin below 0.35V disables the converter. Do not float this pin.", 4 PGND (power) "High Current Ground Connection. The PCB trace connecting this pin to ground should be as short and as wide as possible.", 5 ~{FAULT} (oc) "Open-Drain Fault Indicator Output. Pulls low when an overcurrent condition exists for more than 22ms.", 6 SNSGND (power) "This pin must be connected to ground.", 7 RST (in) "Logic Input to Select Automatic Restart or Latchoff Following a Fault Shutdown. RST = High: Auto-reset mode. In this mode, the LTC3529 will automatically attempt to restart 22ms (typically) after a fault shutdown. RST = Low: (See Datasheet)", 8 VIN (power) "Input Supply Pin.", 9 EP (power) "Small Signal Ground. This is the ground reference for the internal circuitry of the LTC3529 and must be connected directly to ground."

## LTC3530EDD
designator U?
Wide Input Voltage Synchronous Buck-Boost DC/DC Converter, 10-pin SON (DD-10), -40 to 85 degC; Manufacturer: Linear Technology; PartNumber: LTC3530EDD; Number of Outputs: 1; PackageReference: DD-10; PackageDescription: 10-Pin Plastic DFN, Body 3 x 3 mm, Pitch 0.5 mm; RoHS: FALSE; Code_JEDEC: MO-229
footprint LT-DD-10_V (SON, 10-Leads, Body 3x3mm, Pitch 0.5mm, Thermal Pad 2.38x1.65mm)
pins: 1 RT "Programs the Frequency of the Internal Oscillator. Connect a resister from RT to ground. f(kHz) = 33,170/RT (kohm)", 2 BURST (in) "Used to Set the Automatic Burst Mode Threshold. Connect a resistor and capacitor in parallel from this pin to ground. See the Applications Information section for component value selection. For manual control, ground the pin (See Datasheet)", 3 SW1 "Switch Pin Where the Internal Switches A and B are Connected. Connect inductor from SW1 to SW2. An optional Schottky diode can be connnected from SW1 to ground for a moderate efficiency improvement. Minimize trace length to (See Datasheet)", 4 SW2 "Switch Pin Where the Internal Switches C and D are Connected. For applications with output voltages over 4.3V, a Schottky diode is required from SW2 to VOUT to ensure the SW pin does not exhibit excessive voltage.", 5 GND (power) "Ground for the IC.", 6 VOUT (power) "Output of the Synchronous Rectifier. A filter capacitor is placed from VOUT to GND. A ceramic bypass capacitor is recommended as close to the VOUT and GND pins as possible.", 7 VIN (power) "Input Supply Voltage. Internal VCC for the IC. A 10uF ceramic capacitor is recommended as close to the VIN and GND pins as possible.", 8 ~{SHDN}/SS (in) "Combined Soft-Start and Shutdown. Applied voltage <0.4V shuts down the IC. Tie to >1.4V to enable the IC and >1.6V to ensure the error amp is not clamped from soft-start. An R-C from the shutdown command signal to this pin (See Datasheet)", 9 FB (in) "Feedback Pin. Connect resistor divider tap here. The output voltage can be adjusted from 1.8V to 5.25V. The feedback reference is typically 1.215V.", 10 VC "Error Amp Output. An R-C network is connected from this pin to FB for loop compensation. Refer to “Closing the Feedback Loop?section for component selection guidelines. During Burst Mode operation, VC is interna(See Datasheet)", 11 EP (power) "Ground. This pin must be soldered to the PCB and electrically connected to ground."

## LTC3530EDD#PBF
designator U?
Wide Input Voltage Synchronous Buck-Boost DC/DC Converter, 10-pin SON (DD-10), -40 to 85 degC, Pb-Free; Manufacturer: Linear Technology; PartNumber: LTC3530EDD#PBF; Number of Outputs: 1; PackageReference: DD-10; PackageDescription: 10-Pin Plastic DFN, Body 3 x 3 mm, Pitch 0.5 mm; Supplier 1: Digi-Key; Supplier Part Number 1: LTC3530EDD#PBF-ND; RoHS: TRUE; Code_JEDEC: MO-229
footprint LT-DD-10_V (SON, 10-Leads, Body 3x3mm, Pitch 0.5mm, Thermal Pad 2.38x1.65mm)
pins: 1 RT "Programs the Frequency of the Internal Oscillator. Connect a resister from RT to ground. f(kHz) = 33,170/RT (kohm)", 2 BURST (in) "Used to Set the Automatic Burst Mode Threshold. Connect a resistor and capacitor in parallel from this pin to ground. See the Applications Information section for component value selection. For manual control, ground the pin (See Datasheet)", 3 SW1 "Switch Pin Where the Internal Switches A and B are Connected. Connect inductor from SW1 to SW2. An optional Schottky diode can be connnected from SW1 to ground for a moderate efficiency improvement. Minimize trace length to (See Datasheet)", 4 SW2 "Switch Pin Where the Internal Switches C and D are Connected. For applications with output voltages over 4.3V, a Schottky diode is required from SW2 to VOUT to ensure the SW pin does not exhibit excessive voltage.", 5 GND (power) "Ground for the IC.", 6 VOUT (power) "Output of the Synchronous Rectifier. A filter capacitor is placed from VOUT to GND. A ceramic bypass capacitor is recommended as close to the VOUT and GND pins as possible.", 7 VIN (power) "Input Supply Voltage. Internal VCC for the IC. A 10uF ceramic capacitor is recommended as close to the VIN and GND pins as possible.", 8 ~{SHDN}/SS (in) "Combined Soft-Start and Shutdown. Applied voltage <0.4V shuts down the IC. Tie to >1.4V to enable the IC and >1.6V to ensure the error amp is not clamped from soft-start. An R-C from the shutdown command signal to this pin (See Datasheet)", 9 FB (in) "Feedback Pin. Connect resistor divider tap here. The output voltage can be adjusted from 1.8V to 5.25V. The feedback reference is typically 1.215V.", 10 VC "Error Amp Output. An R-C network is connected from this pin to FB for loop compensation. Refer to “Closing the Feedback Loop?section for component selection guidelines. During Burst Mode operation, VC is interna(See Datasheet)", 11 EP (power) "Ground. This pin must be soldered to the PCB and electrically connected to ground."

## LTC3530EDD#TR
designator U?
Wide Input Voltage Synchronous Buck-Boost DC/DC Converter, 10-pin SON (DD-10), -40 to 85 degC, Tape and Reel; Manufacturer: Linear Technology; PartNumber: LTC3530EDD#TR; Number of Outputs: 1; PackageReference: DD-10; PackageDescription: 10-Pin Plastic DFN, Body 3 x 3 mm, Pitch 0.5 mm; RoHS: FALSE; Code_JEDEC: MO-229
footprint LT-DD-10_V (SON, 10-Leads, Body 3x3mm, Pitch 0.5mm, Thermal Pad 2.38x1.65mm)
pins: 1 RT "Programs the Frequency of the Internal Oscillator. Connect a resister from RT to ground. f(kHz) = 33,170/RT (kohm)", 2 BURST (in) "Used to Set the Automatic Burst Mode Threshold. Connect a resistor and capacitor in parallel from this pin to ground. See the Applications Information section for component value selection. For manual control, ground the pin (See Datasheet)", 3 SW1 "Switch Pin Where the Internal Switches A and B are Connected. Connect inductor from SW1 to SW2. An optional Schottky diode can be connnected from SW1 to ground for a moderate efficiency improvement. Minimize trace length to (See Datasheet)", 4 SW2 "Switch Pin Where the Internal Switches C and D are Connected. For applications with output voltages over 4.3V, a Schottky diode is required from SW2 to VOUT to ensure the SW pin does not exhibit excessive voltage.", 5 GND (power) "Ground for the IC.", 6 VOUT (power) "Output of the Synchronous Rectifier. A filter capacitor is placed from VOUT to GND. A ceramic bypass capacitor is recommended as close to the VOUT and GND pins as possible.", 7 VIN (power) "Input Supply Voltage. Internal VCC for the IC. A 10uF ceramic capacitor is recommended as close to the VIN and GND pins as possible.", 8 ~{SHDN}/SS (in) "Combined Soft-Start and Shutdown. Applied voltage <0.4V shuts down the IC. Tie to >1.4V to enable the IC and >1.6V to ensure the error amp is not clamped from soft-start. An R-C from the shutdown command signal to this pin (See Datasheet)", 9 FB (in) "Feedback Pin. Connect resistor divider tap here. The output voltage can be adjusted from 1.8V to 5.25V. The feedback reference is typically 1.215V.", 10 VC "Error Amp Output. An R-C network is connected from this pin to FB for loop compensation. Refer to “Closing the Feedback Loop?section for component selection guidelines. During Burst Mode operation, VC is interna(See Datasheet)", 11 EP (power) "Ground. This pin must be soldered to the PCB and electrically connected to ground."